# Altium schematic symbol library SSR_SPST-NO.SchLib: 1 symbol
Pins are listed as number, name and electrical type; pins without a type are passive.

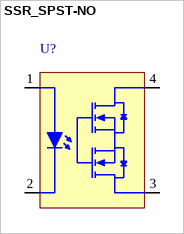
[diagram p0: symbol SSR_SPST-NO]

## SSR_SPST-NO
designator U?  (value not drawn)
pins: 1, 2, 3, 4